# Altium schematic symbol library CUI_rcj-02x.SchLib: 1 symbol
Pins are listed as number, name and electrical type; pins without a type are passive.

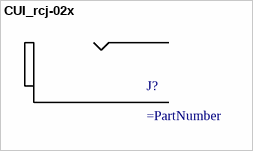
[diagram p0: symbol CUI_rcj-02x]

## CUI_rcj-02x
designator J?
pins: 1, 2